# Altium schematic symbol library EconetTerminator.SCHLIB: 5 symbols
Pins are listed as number, name and electrical type; pins without a type are passive.

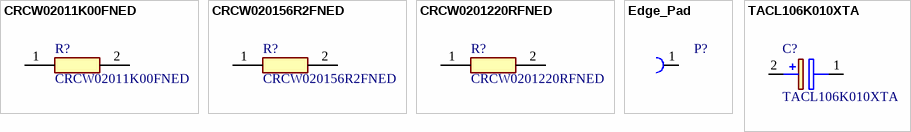
[diagram p0: symbols CRCW02011K00FNED to TACL106K010XTA]

## CRCW02011K00FNED
designator R?
Resistor; Manufacturer_Name: Vishay; Datasheet Link: http://www.vishay.com/docs/20035/dcrcwe3.pdf; Height: 0.28mm; Manufacturer_Part_Number: CRCW02011K00FNED; Mouser Part Number: 71-CRCW02011K00FNED; Mouser Price/Stock: https://www.mouser.co.uk/ProductDetail/Vishay-Dale/CRCW02011K00FNED?qs=IQLUlsvFoXtTp7ngtIXo7A%3D%3D; Arrow Part Number: CRCW02011K00FNED; Arrow Price/Stock: https://www.arrow.com/en/products/crcw02011k00fned/vishay?region=nac
footprint RESC0603X28N
pins: 1, 2

## CRCW020156R2FNED
designator R?
Resistor; Manufacturer_Name: Vishay; Datasheet Link: http://www.vishay.com/docs/20035/dcrcwe3.pdf; Height: 0.28mm; Manufacturer_Part_Number: CRCW020156R2FNED; Mouser Part Number: 71-CRCW020156R2FNED; Mouser Price/Stock: https://www.mouser.co.uk/ProductDetail/Vishay-Dale/CRCW020156R2FNED?qs=9Scgv9HUU544zEe82%2F04ig%3D%3D; Arrow Part Number: CRCW020156R2FNED; Arrow Price/Stock: https://www.arrow.com/en/products/crcw020156r2fned/vishay
footprint RESC0603X28N
pins: 1, 2

## CRCW0201220RFNED
designator R?
Resistor; Manufacturer_Name: Vishay; Datasheet Link: http://www.vishay.com/docs/20035/dcrcwe3.pdf; Height: 0.28mm; Manufacturer_Part_Number: CRCW0201220RFNED; Mouser Part Number: 71-CRCW0201220RFNED; Mouser Price/Stock: https://www.mouser.co.uk/ProductDetail/Vishay-Dale/CRCW0201220RFNED?qs=1%252BOKmYoxJmlU230IWpcwyg%3D%3D; Arrow Part Number: CRCW0201220RFNED; Arrow Price/Stock: https://www.arrow.com/en/products/crcw0201220rfned/vishay
footprint RESC0603X28N
pins: 1, 2

## Edge_Pad
designator P?  (no BOM)
Edge Pad
footprint CONS_PAD
pins: 1

## TACL106K010XTA
designator C?
Capacitor Polarised; Manufacturer_Name: AVX; Datasheet Link: http://datasheets.avx.com/TAC.pdf; Height: 1mm; Manufacturer_Part_Number: TACL106K010XTA; Mouser Part Number: 581-TACL106K010XTA; Mouser Price/Stock: https://www.mouser.com/Search/Refine.aspx?Keyword=581-TACL106K010XTA; Arrow Part Number: TACL106K010XTA; Arrow Price/Stock: https://www.arrow.com/en/products/tacl106k010xta/avx
footprint CAPPC1709X100N
pins: 1, 2